# EAGLE library part BMS_THERMISTOR (library EL_POTENCIA_LIBRERIA_VES2018)
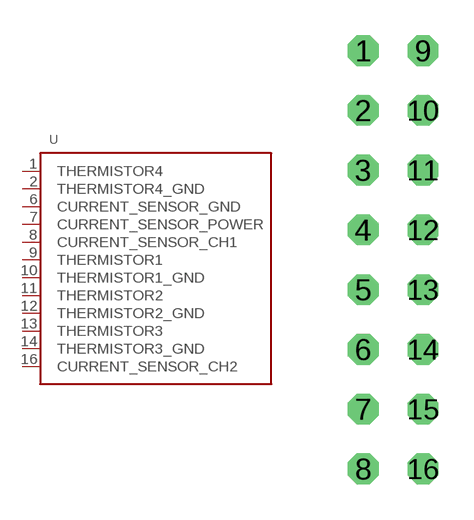
[diagram p4: symbol with the pads of BMS_THERMISTOR; footprint BMS_THERMISTOR]

Designator prefix -

## BMS_THERMISTOR  [BMS_THERMISTOR]
1  THERMISTOR4
2  THERMISTOR4_GND
6  CURRENT_SENSOR_GND
7  CURRENT_SENSOR_POWER
8  CURRENT_SENSOR_CH1
9  THERMISTOR1
10  THERMISTOR1_GND
11  THERMISTOR2
12  THERMISTOR2_GND
13  THERMISTOR3
14  THERMISTOR3_GND
16  CURRENT_SENSOR_CH2

## Footprint BMS_THERMISTOR (pad centres in mm)
drill 0.8 octagon: 1 -11.43,8.89; 2 -11.43,6.35; 3 -11.43,3.81; 4 -11.43,1.27; 5 -11.43,-1.27; 6 -11.43,-3.81; 7 -11.43,-6.35; 8 -11.43,-8.89; 9 -8.89,8.89; 10 -8.89,6.35; 11 -8.89,3.81; 12 -8.89,1.27; 13 -8.89,-1.27; 14 -8.89,-3.81; 15 -8.89,-6.35; 16 -8.89,-8.89